# Altium footprint library S4B-PH-SM4-TBLFSN.PcbLib: 1 footprints
Each footprint in its own frame and in the unit in brackets; x right, y up, seen from the top. Pads: shape width x height; smd on the part's side, far side on the other; paste and mask are expansions set on the pad; w line width, h text height; cw(c..) or ccw(c..) is an arc to the next point about the centre after c.
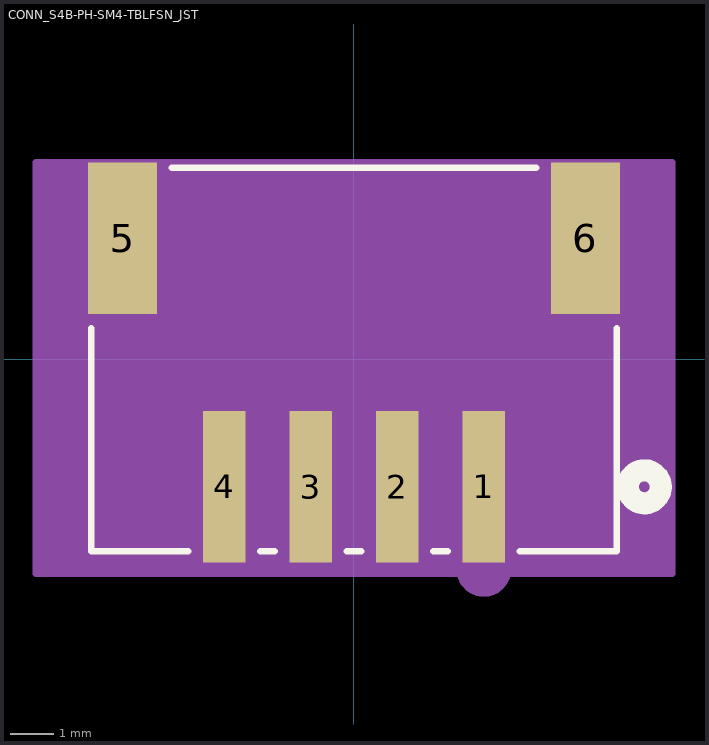
[diagram p0: the footprint, top view; thin cyan lines are the x and y axes]

## CONN_S4B-PH-SM4-TBLFSN_JST [mil]
pads (6):
  rect 39x138 smd paste+0 mask+0: 1(118.11,-115.93) 2(39.37,-115.93) 3(-39.37,-115.93) 4(-118.11,-115.93)
  rect 63x138 smd paste+0 mask+0: 5(-210.63,110.44) 6(210.63,110.44)
Top Overlay:
  circle w20: c264.25,-115.93 r15
  lines w6: -239.25,28.34 -239.25,-174.5 -150.71,-174.5 ; -166.03,174.5 166.03,174.5 ; -85.51,-174.5 -71.97,-174.5 ; -6.77,-174.5 6.77,-174.5 ; 71.97,-174.5 85.51,-174.5 ; 150.71,-174.5 239.25,-174.5 239.25,28.34
Bottom Overlay:
  circle w20: c264.25,-115.93 r15
Mechanical 13:
  circle w20: c118.11,-190.93 r15
  lines w1: -234.25,-169.5 -234.25,169.5 234.25,169.5 234.25,-169.5 -234.25,-169.5
Mechanical 15:
  region: 289.63,179.5 -289.63,179.5 -289.63,-194.93 289.63,-194.93
  lines w6: -289.63,-194.93 289.63,-194.93 289.63,179.5 -289.63,179.5 -289.63,-194.93
3D body "S4B-PH-SM4-TB_LF__SN_.stp": height 215.07, standoff -5.41, extent -234.25,-144.5 234.25,204.61